# Altium schematic symbol library CAP,Alum,10uF,16V,Radial,Thru.Schlib: 1 symbol
Pins are listed as number, name and electrical type; pins without a type are passive.

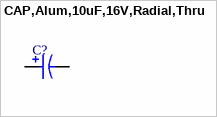
[diagram p0: symbol CAP,Alum,10uF,16V,Radial,Thru]

## CAP,Alum,10uF,16V,Radial,Thru
designator C?
pins: 1, 2